# Altium footprint library Triac.PcbLib: 11 footprints
Each footprint in its own frame and in the unit in brackets; x right, y up, seen from the top. Pads: shape width x height; smd on the part's side, far side on the other; paste and mask are expansions set on the pad; w line width, h text height; cw(c..) or ccw(c..) is an arc to the next point about the centre after c.
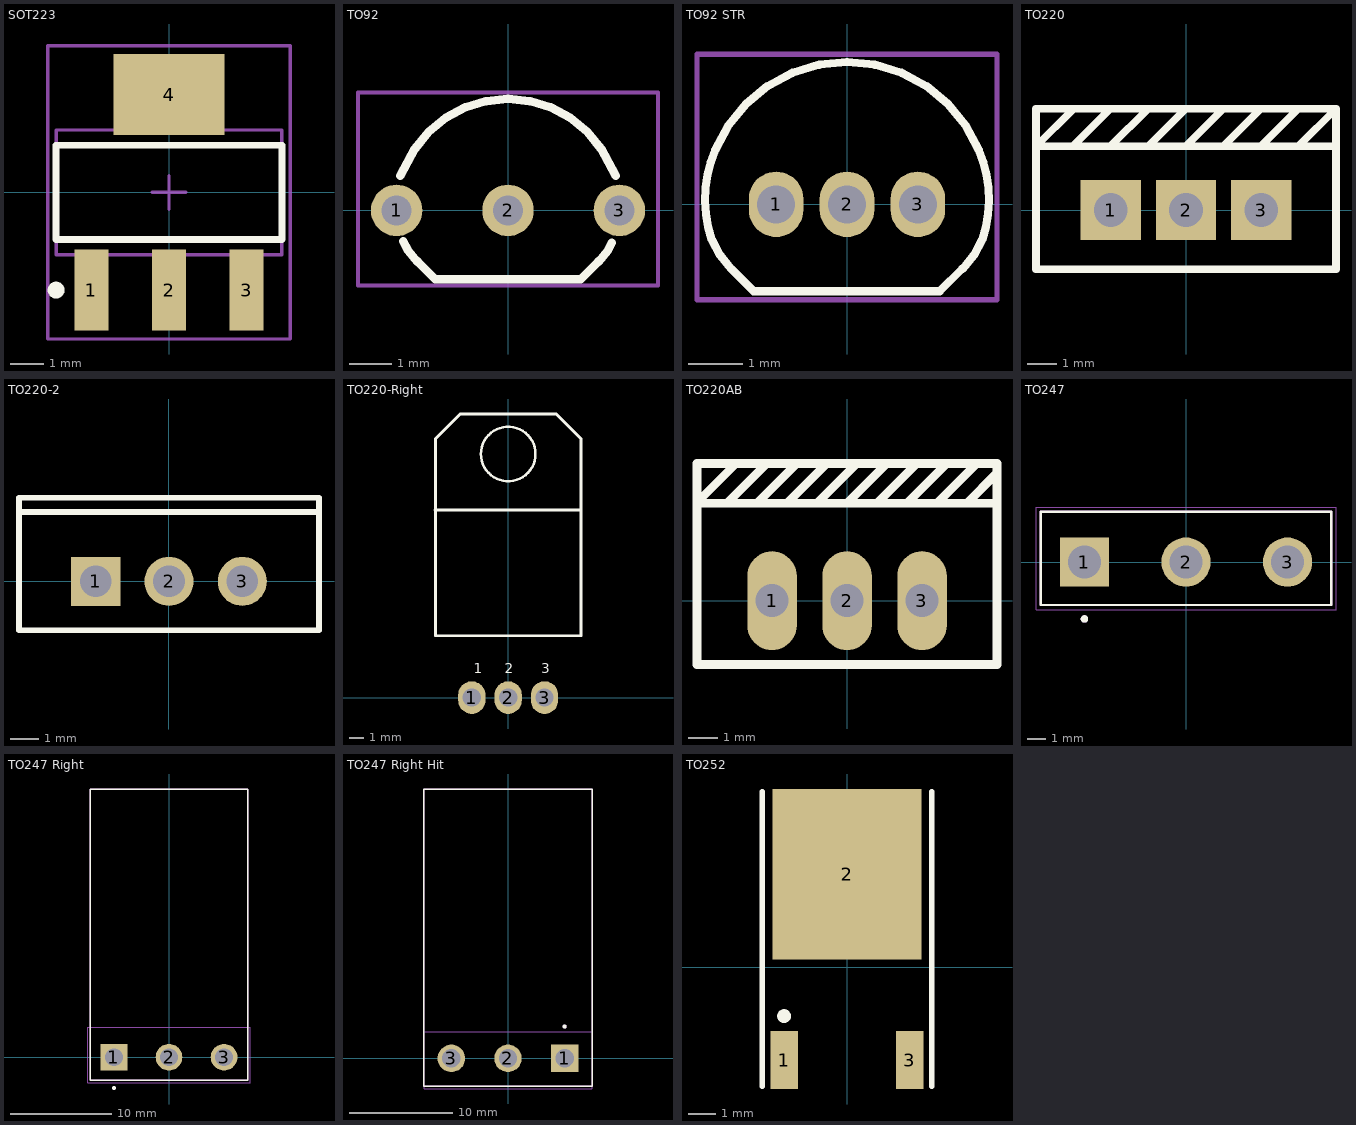
[diagram p0: the footprints below, top view; thin cyan lines are the x and y axes]

## SOT223 [mm]
pads (4):
  rect 1x2.4 smd: 1(-2.3,-2.9) 2(0,-2.9) 3(2.3,-2.9)
  rect 3.3x2.4 smd: 4(0,2.9)
Top Overlay:
  circle w0.25: c-3.35,-2.9 r0.125
  lines w0.2: -3.35,-1.4 -3.35,1.4 3.35,1.4 3.35,-1.4 -3.35,-1.4
Mechanical 13:
  lines w0.1: -3.35,-1.85 -3.35,1.85 3.35,1.85 3.35,-1.85 -3.35,-1.85
Mechanical 15:
  lines w0.1: -0.5,0 0.5,0 ; 0,-0.5 0,0.5 ; -3.6,-4.35 -3.6,4.35 3.6,4.35 3.6,-4.35 -3.6,-4.35
3D body "CircuitWorks-SOT-223.SLDPRT": height 1.66, standoff -0.02, extent -3.25,-3.48 3.25,3.48

## TO92 [mm]
height 8
pads (3):
  round 1.2 hole 0.7: 1(-2.6,0) 2(0,0) 3(2.6,0)
Top Overlay:
  lines w0.2: -2.512,0.806 -2.173,1.441 -1.848,1.837 -1.452,2.162 -1,2.403 -0.51,2.552 0,2.602 0.51,2.552 1,2.403 1.452,2.162 1.848,1.837 2.173,1.441 2.512,0.806 ; -2.443,-0.723 -2.326,-0.941 -2.118,-1.195 -2.112,-1.189 -1.7,-1.601 1.7,-1.601 2.112,-1.189 2.118,-1.195 2.326,-0.941 2.424,-0.759
Mechanical 15:
  lines w0.1: -3.5,-1.75 -3.5,2.75 3.5,2.75 3.5,-1.75 -3.5,-1.75
3D body "User Library-TO-92_Bent.STEP": height 10, standoff -3, extent -2.79,-1.59 2.79,2.613

## TO92 STR [mm]
height 7
pads (3):
  oval 1x1.2 hole 0.7 mask+0.06: 1(-1.3,0) 2(0,0) 3(1.3,0)
Top Overlay:
  lines w0.15: -2.481,-0.642 cw(c-0.325,0.092) -2.414,0.999 -2.173,1.45 -1.848,1.846 -1.452,2.171 -1,2.413 -0.51,2.562 0,2.612 0.51,2.562 1,2.413 1.452,2.171 1.848,1.846 2.173,1.45 2.414,0.999 cw(c0.325,0.092) 2.481,-0.642 2.326,-0.931 2.118,-1.185 2.112,-1.18 1.7,-1.592 -1.712,-1.592 -2.118,-1.185 -2.326,-0.931 -2.481,-0.642
Mechanical 15:
  lines w0.1: -2.75,-1.75 2.75,-1.75 2.75,2.75 -2.75,2.75 -2.75,-1.75
3D body "User Library-TO-92_Str.STEP": height 10, standoff -3, extent -2.613,-1.591 2.613,2.613

## TO220 [mil]
pads (3):
  rect 80x80 hole 45: 1(-100,0) 2(0,0) 3(100,0)
Top Overlay:
  lines w10: -150.5,85 -100.5,135 ; -149.5,135 -199.5,85 ; -100.5,85 -50.5,135 ; -50.5,85 -0.5,135 ; -0.5,85 49.5,135 ; 49.5,85 99.5,135 ; 99.5,85 149.5,135 ; 149.5,85 199.5,135 ; -199.5,85 -199.5,135 199.5,135 ; -199.5,85 199.5,85 ; -199.5,85 -199.5,-78.74 199.5,-78.74 199.5,85 ; 199.5,85 199.5,135
3D body "User Library-TO-220-4.STEP": height 789.77, standoff -344.09, extent -200.79,-68.9 200.79,108.27

## TO220-2 [mm]
pads (3):
  rect 1.7x1.7 hole 1.1: 1(-2.54,0)
  round 1.7 hole 1.1: 2(0,0) 3(2.54,0)
Top Overlay:
  lines w0.2: -5.2,2.4 5.2,2.4 ; -5.2,-1.7 -5.2,2.9 5.2,2.9 5.2,-1.7 -5.2,-1.7
3D body "TO220.STEP": height 21.33, standoff -8, extent -5.607,-1.622 5.607,3.068

## TO220-Right [mil]
pads (3):
  oval 75x90 hole 50: 1(-100,0) 2(0,0) 3(100,0)
Top Overlay:
  circle w7: c0,670 r75
  lines w7.87: -201,516.22 199,516.22 ; -200,170 200,170 200,712 132,780 -132,780 -200,712 -200,578.74 -200,170
  text "1" at -95,66.93 h27.56
  text "3" at 91,66.93 h27.56
  text "2" at -10,66.93 h27.56
3D body "78XXCV.STEP": height 175, standoff -112.5, extent -198,-8 202,776

## TO220AB [mil]
pads (3):
  oval 66x132 hole 44: 1(-100,0) 2(0,0) 3(100,0)
Top Overlay:
  lines w11.81: -160,130 -108,182 ; -148,183 -200,131 -200,130 ; -120,130 -68,182 ; -80,130 -28,182 ; -40,130 12,182 ; 0,130 52,182 ; 40,130 92,182 ; 80,130 132,182 ; 120,130 172,182 ; 160,130 198.5,168.5 ; -200,130 -200,-85 200,-85 200,130 ; -200,130 200,130 ; -200,130 -200,183 200,183 200,130
3D body "SW3DPS-TO-220HS-DEFAULT.STEP": height 730, standoff -150, extent -200,-55 200,125

## TO247 [mm]
pads (3):
  rect 2.64x2.64 hole 1.76: 1(-5.45,0)
  round 2.64 hole 1.76: 2(0,0) 3(5.45,0)
Top Overlay:
  circle w0.2: c-5.45,-3.05 r0.1
  lines w0.127: -7.8,-2.3 7.8,-2.3 7.8,2.7 -7.8,2.7 -7.8,-2.3
Mechanical 13:
  circle w0.2: c-5.45,-3.05 r0.1
  lines w0.127: -7.8,-2.3 7.8,-2.3 7.8,2.7 -7.8,2.7 -7.8,-2.3
Mechanical 15:
  lines w0.05: -8.05,-2.55 8.05,-2.55 8.05,2.95 -8.05,2.95 -8.05,-2.55
3D body "step_temp.STEP": height 27.48, standoff -7.62, extent -7.8,-2.3 7.8,2.7

## TO247 Right [mm]
pads (3):
  rect 2.64x2.64 hole 1.76: 1(-5.45,0)
  round 2.64 hole 1.76: 2(0,0) 3(5.45,0)
Top Overlay:
  circle w0.2: c-5.45,-3.05 r0.1
  lines w0.127: -7.8,-2.3 -7.8,26.543 7.8,26.543 7.8,-2.3 -7.8,-2.3
Mechanical 13:
  circle w0.2: c-5.45,-3.05 r0.1
  lines w0.127: -7.8,-2.3 -7.8,26.543 7.8,26.543 7.8,-2.3 -7.8,-2.3
Mechanical 15:
  lines w0.05: -8.05,-2.55 -8.05,2.95 8.05,2.95 8.05,-2.55 -8.05,-2.55
3D body "User Library-TO-247_bent_leads.step": height 3.41, standoff -8.59, extent -7.95,-0.381 7.95,26.601

## TO247 Right Hit [mm]
pads (3):
  rect 2.64x2.64 hole 1.76: 1(5.45,0)
  round 2.64 hole 1.76: 2(0,0) 3(-5.45,0)
Top Overlay:
  circle w0.2: c5.45,3.05 r0.1
  lines w0.127: -8.128,-2.7 8.128,-2.7 8.128,25.908 -8.128,25.908 -8.128,-2.7
Mechanical 13:
  circle w0.2: c5.45,3.05 r0.1
  lines w0.127: -8.128,-2.7 -8.128,25.908 8.128,25.908 8.128,-2.7 -8.128,-2.7
Mechanical 15:
  lines w0.05: -8.05,-2.95 -8.05,2.55 8.05,2.55 8.05,-2.95 -8.05,-2.95
3D body "User Library-TO-247 CASE 340L-02 Horizontal Bottom.STEP": height 6.61, standoff -11.69, extent -8,-0.35 8,25.55

## TO252 [mm]
pads (3):
  rect 1x2.1 smd: 1(-2.285,-3.375) 3(2.285,-3.375)
  rect 5.4x6.2 smd: 2(0,3.375)
Top Overlay:
  circle w0.25: c-2.285,-1.775 r0.125
  lines w0.2: -3.085,-4.325 -3.085,6.375 ; 3.085,-4.325 3.085,6.375
3D body "User Library-DPAK-1.step": height 2.39, standoff -0.02, extent -3.27,-4.111 3.27,5.828